# EAGLE library part BQ24650_RVA_16 (library octanis_eps_v05)
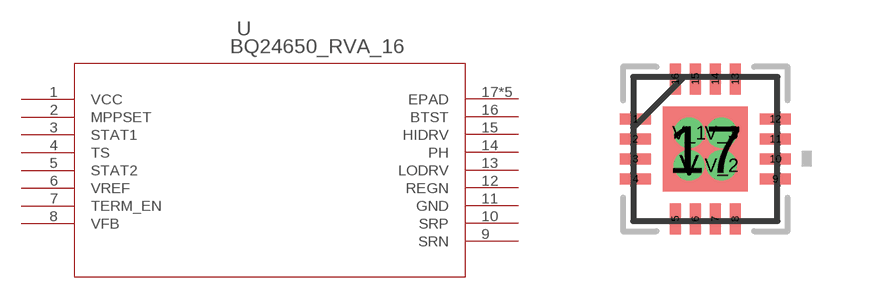
[diagram p6: symbol with the pads of RVA16_2P14X2P14; footprint RVA16_2P14X2P14]

Designator prefix U

## BQ24650_RVA_16 (DATASHEETURL: http://www.ti.com/lit/gpn/BQ24650; DESCRIPTION: High Efficiency Synchronous Switch-Mode Charger Controller ? Solar Battery Charger; FAMILY_NAME: BATTERY CHARGE MANAGEMENT; GENERIC_PART_NUMBER: BQ24650; INDUSTRY_STD_PKG_TYPE: VQFN; MANUFACTURER: Texas Instruments; PACKAGE_DESIGNATOR: RVA; PIN_COUNT: 16)  [RVA16_2P14X2P14]
1  VCC  pwr
2  MPPSET  in
3  STAT1  out
4  TS  in
5  STAT2  out
6  VREF  pwr
7  TERM_EN  in
8  VFB  in
9  SRN  in
10  SRP
11  GND  pwr
12  REGN  pwr
13  LODRV  out
14  PH  pwr
15  HIDRV  out
16  BTST  pwr
17  EPAD  pwr
V  EPAD  pwr
V_1  EPAD  pwr
V_2  EPAD  pwr
V_3  EPAD  pwr

## Footprint RVA16_2P14X2P14 (pad centres in mm)
smd 0.787 x 0.279: 1 -1.75,0.75; 2 -1.75,0.25; 3 -1.75,-0.25; 4 -1.75,-0.75; 9 1.75,-0.75; 10 1.75,-0.25; 11 1.75,0.25; 12 1.75,0.75
smd 0.279 x 0.787: 5 -0.75,-1.75; 6 -0.25,-1.75; 7 0.25,-1.75; 8 0.75,-1.75; 13 0.75,1.75; 14 0.25,1.75; 15 -0.25,1.75; 16 -0.75,1.75
smd 2.134 x 2.134: 17 0,0
drill 0.254: V -0.406,-0.406; V_1 -0.406,0.406; V_2 0.406,-0.406; V_3 0.406,0.406